# Altium footprint library 1217133-1.PcbLib: 1 footprints
Each footprint in its own frame and in the unit in brackets; x right, y up, seen from the top. Pads: shape width x height; smd on the part's side, far side on the other; paste and mask are expansions set on the pad; w line width, h text height; cw(c..) or ccw(c..) is an arc to the next point about the centre after c.
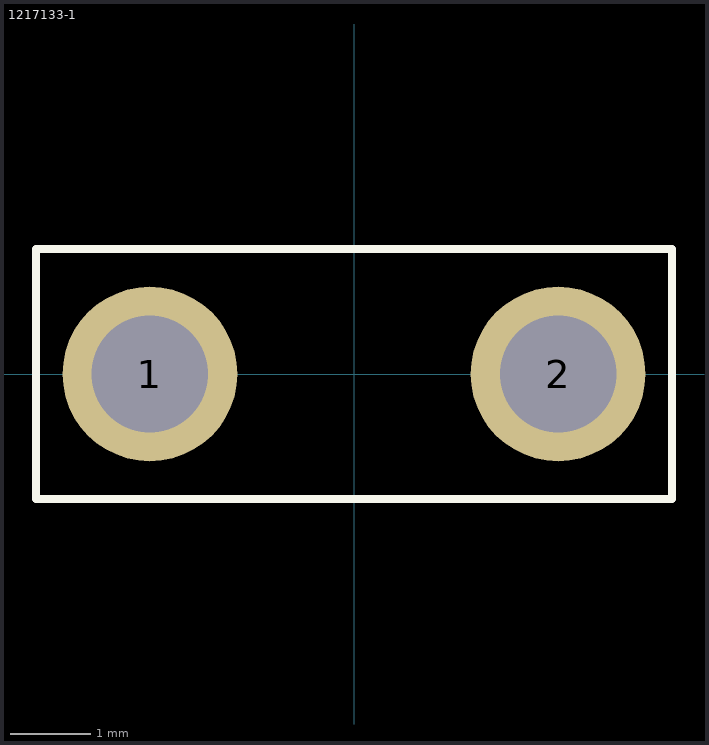
[diagram p0: the footprint, top view; thin cyan lines are the x and y axes]

## 1217133-1 [mm] "1217133-1"
pads (2):
  round 2.175 hole 1.45: 1(-2.54,0) 2(2.54,0)
Top Overlay:
  lines w0.1: -3.96,-1.555 3.96,-1.555 3.96,1.555 -3.96,1.555 -3.96,-1.555
3D body "1217133-1.stp": height 8.66, standoff -3.79, extent -3.962,-1.537 3.962,1.537